# Altium footprint library Pico_Headers.PCBLIB: 1 footprints
Each footprint in its own frame and in the unit in brackets; x right, y up, seen from the top. Pads: shape width x height; smd on the part's side, far side on the other; paste and mask are expansions set on the pad; w line width, h text height; cw(c..) or ccw(c..) is an arc to the next point about the centre after c.
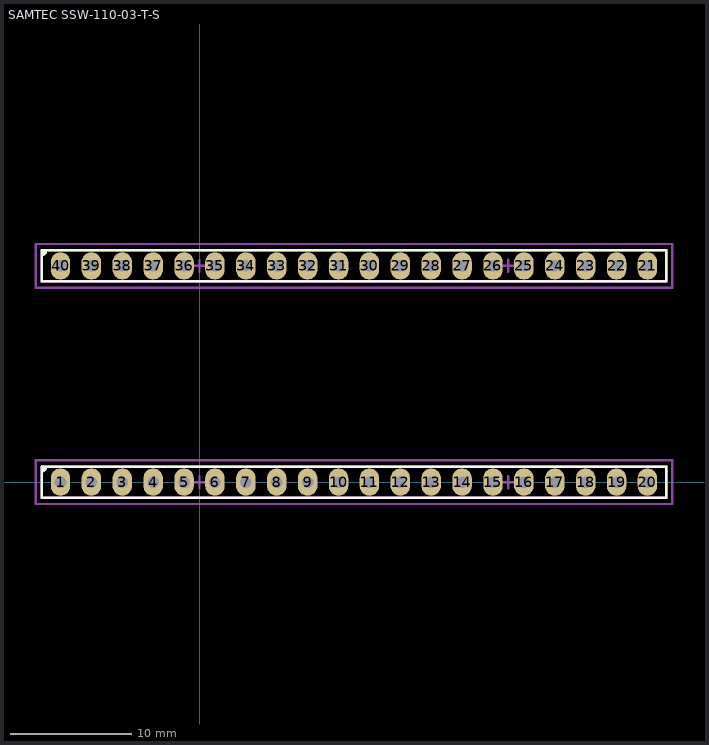
[diagram p0: the footprint, top view; thin cyan lines are the x and y axes]

## SAMTEC SSW-110-03-T-S [mm]
height 8.51
pads (40):
  oval 1.6x2.25 hole 0.95: 1(-11.43,0) 2(-8.89,0) 3(-6.35,0) 4(-3.81,0) 5(-1.27,0) 6(1.27,0) 7(3.81,0) 8(6.35,0) 9(8.89,0) 10(11.43,0) 11(13.97,0) 12(16.51,0) 13(19.05,0) 14(21.59,0) 15(24.13,0) 16(26.67,0) 17(29.21,0) 18(31.75,0) 19(34.29,0) 20(36.83,0) 21(36.83,17.78) 22(34.29,17.78) 23(31.75,17.78) 24(29.21,17.78) 25(26.67,17.78) 26(24.13,17.78) 27(21.59,17.78) 28(19.05,17.78) 29(16.51,17.78) 30(13.97,17.78) 31(11.43,17.78) 32(8.89,17.78) 33(6.35,17.78) 34(3.81,17.78) 35(1.27,17.78) 36(-1.27,17.78) 37(-3.81,17.78) 38(-6.35,17.78) 39(-8.89,17.78) 40(-11.43,17.78)
Top Overlay:
  region: -12.96,19.05 -12.62,19.05 -12.62,18.88 -12.82,18.68 -12.96,18.68
  region: -12.96,1.27 -12.62,1.27 -12.62,1.1 -12.82,0.9 -12.96,0.9
  lines w0.2: -12.96,0.9 ccw(c-12.96,1.24) -12.62,1.24 -12.62,1.27 ; -12.96,18.68 ccw(c-12.96,19.02) -12.62,19.02 -12.62,19.05 ; 12.44,-1.27 38.36,-1.27 38.36,1.27 12.44,1.27 ; 12.44,16.51 38.36,16.51 38.36,19.05 12.44,19.05 ; 12.96,-1.27 -12.96,-1.27 -12.96,1.27 12.96,1.27 ; 12.96,16.51 -12.96,16.51 -12.96,19.05 12.96,19.05
Mechanical 13:
  lines w0.2: 12.44,-1.3 38.4,-1.3 38.4,1.3 12.44,1.3 ; 12.44,16.48 38.4,16.48 38.4,19.08 12.44,19.08 ; 13,-1.3 -12.96,-1.3 -12.96,1.3 13,1.3 ; 13,16.48 -12.96,16.48 -12.96,19.08 13,19.08
Mechanical 15:
  lines w0.2: -0.5,0 0.5,0 ; -0.5,17.78 0.5,17.78 ; 0,-0.5 0,0.5 ; 0,17.28 0,18.28 ; 11.94,-1.8 38.86,-1.8 ; 11.94,1.8 38.86,1.8 ; 11.94,15.98 38.86,15.98 ; 11.94,19.58 38.86,19.58 ; 13.46,-1.8 -13.46,-1.8 -13.46,1.8 13.46,1.8 ; 13.46,15.98 -13.46,15.98 -13.46,19.58 13.46,19.58 ; 24.9,0 25.9,0 ; 24.9,17.78 25.9,17.78 ; 25.4,-0.5 25.4,0.5 ; 25.4,17.28 25.4,18.28 ; 38.864,-1.8 38.864,1.8 ; 38.864,15.98 38.864,19.58
3D body "Samtec-SSW-110-03-T-S.STEP": height 8.51, standoff -10.01, extent -12.954,16.574 12.954,18.987
3D body "Samtec-SSW-110-03-T-S.STEP": height 8.51, standoff -10.01, extent 12.446,16.574 38.354,18.987
3D body "Samtec-SSW-110-03-T-S.STEP": height 8.51, standoff -10.01, extent -12.954,-1.206 12.954,1.207
3D body "Samtec-SSW-110-03-T-S.STEP": height 8.51, standoff -10.01, extent 12.446,-1.206 38.354,1.207